# EAGLE library part MCP6S93 (library butter)
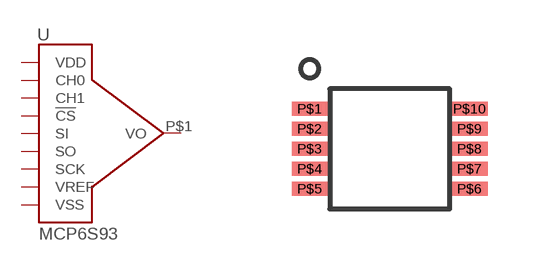
[diagram p4: symbol with the pads of MSOP-10; footprint MSOP-10]

Designator prefix U

## MCP6S93  [MSOP-10]
P$1  VO
P$2  CH0
P$3  CH1
P$4  VREF
P$5  VSS
P$6  !CS
P$7  SI
P$8  SO
P$9  SCK
P$10  VDD

## Footprint MSOP-10 (pad centres in mm)
smd 0.9 x 0.35: P$1 -2,1; P$2 -2,0.5; P$3 -2,0; P$4 -2,-0.5; P$5 -2,-1; P$6 2,-1; P$7 2,-0.5; P$8 2,0; P$9 2,0.5; P$10 2,1